# EAGLE library part XCR3064XL-VQ44 (library Xilinx)
Xilinx XCR3064XL in a VQ44 package
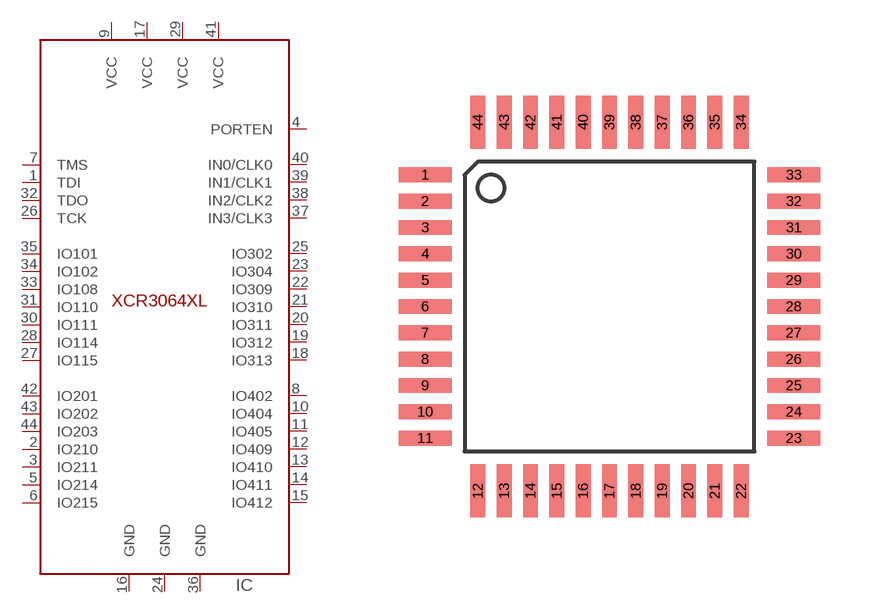
[diagram p29: symbol with the pads of VQ44; footprint VQ44]

Designator prefix IC

## XCR3064XL-VQ44  [VQ44]
1  TDI
2  IO210
3  IO211
4  PORTEN
5  IO214
6  IO215
7  TMS
8  IO402
9  VCC
10  IO404
11  IO405
12  IO409
13  IO410
14  IO411
15  IO412
16  GND
17  VCC
18  IO313
19  IO312
20  IO311
21  IO310
22  IO309
23  IO304
24  GND
25  IO302
26  TCK
27  IO115
28  IO114
29  VCC
30  IO111
31  IO110
32  TDO
33  IO108
34  IO102
35  IO101
36  GND
37  IN3/CLK3
38  IN2/CLK2
39  IN1/CLK1
40  IN0/CLK0
41  VCC
42  IO201
43  IO202
44  IO203

## Footprint VQ44 (pad centres in mm)
VQFP 44
smd 1.6 x 0.45: 1 -5.6,4; 2 -5.6,3.2; 3 -5.6,2.4; 4 -5.6,1.6; 5 -5.6,0.8; 6 -5.6,0; 7 -5.6,-0.8; 8 -5.6,-1.6; 9 -5.6,-2.4; 10 -5.6,-3.2; 11 -5.6,-4; 23 5.6,-4; 24 5.6,-3.2; 25 5.6,-2.4; 26 5.6,-1.6; 27 5.6,-0.8; 28 5.6,0; 29 5.6,0.8; 30 5.6,1.6; 31 5.6,2.4; 32 5.6,3.2; 33 5.6,4
smd 0.45 x 1.6: 12 -4,-5.6; 13 -3.2,-5.6; 14 -2.4,-5.6; 15 -1.6,-5.6; 16 -0.8,-5.6; 17 0,-5.6; 18 0.8,-5.6; 19 1.6,-5.6; 20 2.4,-5.6; 21 3.2,-5.6; 22 4,-5.6; 34 4,5.6; 35 3.2,5.6; 36 2.4,5.6; 37 1.6,5.6; 38 0.8,5.6; 39 0,5.6; 40 -0.8,5.6; 41 -1.6,5.6; 42 -2.4,5.6; 43 -3.2,5.6; 44 -4,5.6